# Altium integrated library Integrated_LibraryLukas.IntLib: 18 symbols
Pins are listed as number, name and electrical type; pins without a type are passive.

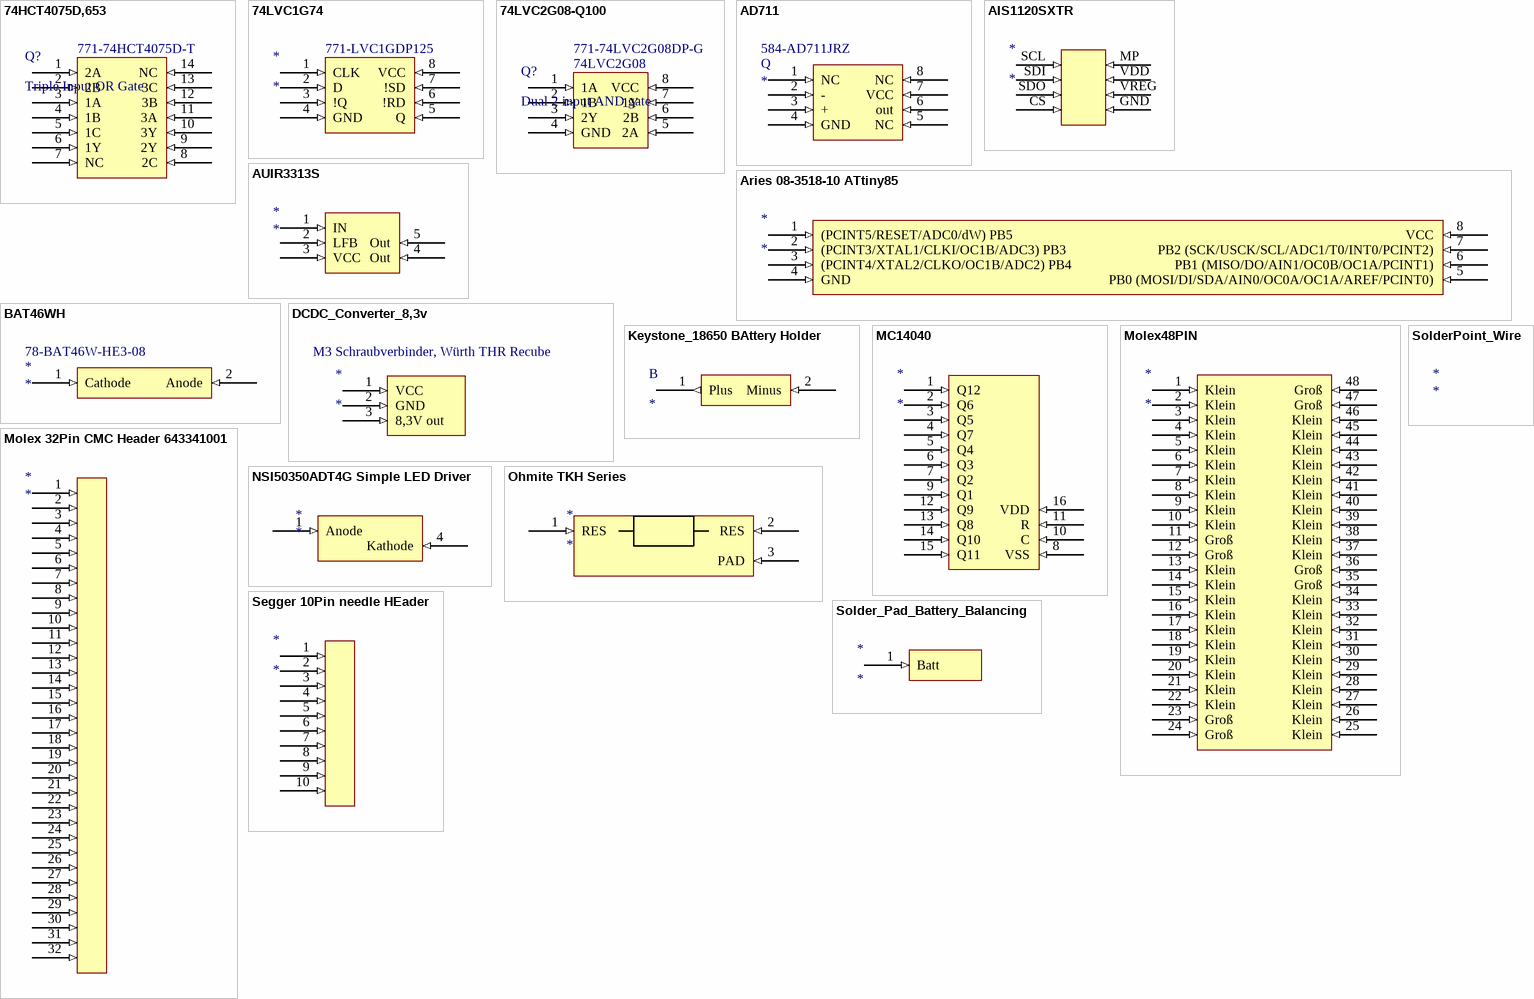
[diagram p0: symbols 74HCT4075D,653 to SolderPoint_Wire]

## 74HCT4075D,653
designator Q?, comment Triple Input OR Gate  Supplier Part Number 1: 771-74HCT4075D-T
Supplier 1: Mouser
footprint SOIC14; SOIC127P600X175-14N (SOIC, 14-Leads, Body 8,65x3,90mm, Pitch 1,27mm, IPC Medium Density)
pins: 1 2A (in), 2 2B (in), 3 1A (in), 4 1B (in), 5 1C (in), 6 1Y (in), 7 NC (in), 8 2C (in), 9 2Y (in), 10 3Y (in), 11 3A (in), 12 3B (in), 13 3C (in), 14 NC (in)

## 74LVC1G74
designator *  Supplier Part Number 1: 771-LVC1GDP125
Supplier 1: Mouser
footprint TSSOP8; TSOP65P400X110-8N (TSOP, 8-Leads, Body 3,00x3,00mm, Pitch 0,65mm, IPC Medium Density)
pins: 1 CLK (in), 2 D (in), 3 !Q (in), 4 GND (in), 5 Q (in), 6 !RD (in), 7 !SD (in), 8 VCC (in)

## 74LVC2G08-Q100
designator Q?, comment Dual 2 input AND gate  Supplier Part Number 1: 771-74LVC2G08DP-G
Supplier 1: Mouser
footprint TSSOP8; TSOP65P400X110-8N (TSOP, 8-Leads, Body 3,00x3,00mm, Pitch 0,65mm, IPC Medium Density)
pins: 1 1A (in), 2 1B (in), 3 2Y (in), 4 GND (in), 5 2A (in), 6 2B (in), 7 1Y (in), 8 VCC (in)
text: 74LVC2G08

## AD711
designator Q  Supplier Part Number 1: 584-AD711JRZ
Supplier 1: Mouser
footprint SOIC8; SOIC127P600X175-8N (SOIC, 8-Leads, Body 4,90x3,90mm, Pitch 1,27mm, IPC Medium Density)
pins: 1 NC (in), 2 - (in), 3 + (in), 4 GND (in), 5 NC (in), 6 out (in), 7 VCC (in), 8 NC (in)

## AIS1120SXTR
designator *
footprint SOIC8; SOIC127P600X175-8N (SOIC, 8-Leads, Body 4,90x3,90mm, Pitch 1,27mm, IPC Medium Density); pin to pad CS>4 GND>5 MP>8 SCL>1 SDI>2 SDO>3 VDD>7 VREG>6
pins: CS (in), GND (in), MP (in), SCL (in), SDI (in), SDO (in), VDD (in), VREG (in)

## Aries 08-3518-10 ATtiny85
designator *
footprint DIP8 0.3 Center
pins: 1 (PCINT5/RESET/ADC0/dW) PB5 (in), 2 (PCINT3/XTAL1/CLKI/OC1B/ADC3) PB3 (in), 3 (PCINT4/XTAL2/CLKO/OC1B/ADC2) PB4 (in), 4 GND (in), 5 PB0 (MOSI/DI/SDA/AIN0/OC0A/OC1A/AREF/PCINT0) (in), 6 PB1 (MISO/DO/AIN1/OC0B/OC1A/PCINT1) (in), 7 PB2 (SCK/USCK/SCL/ADC1/T0/INT0/PCINT2) (in), 8 VCC (in)

## AUIR3313S
designator *
footprint D2PAK5 ;DPAK228P1524X483-5N (D2-PAK, 5-Pads, Body 7,93x8,70mm (max), IPC Medium Density)
pins: 1 IN (in), 2 LFB (in), 3 VCC (in), 4 Out (in), 5 Out (in)

## BAT46WH
designator *  Supplier Part Number 1: 78-BAT46W-HE3-08
Supplier 1: Mouser
footprint DIOM2715X18N (Molded Diode, 2-Leads, Body 2,70x1,55mm, IPC Medium Density)
pins: 1 Cathode (in), 2 Anode (in)

## DCDC_Converter_8,3v
designator *
footprint DCDC_BR_8,3V
pins: 1 VCC (in), 2 GND (in), 3 8,3V out (in)
text: M3 Schraubverbinder, Würth THR Recube

## Keystone_18650 BAttery Holder
designator B
1042
footprint Keystone_18650_Battery_Holder
pins: 1 Plus (out), 2 Minus (in)

## MC14040
designator *
footprint SOIC127P1030X265-16N (SOIC, 16-Leads, Body 10,30x7,50mm, Pitch 1,27mm, IPC Medium Density)
pins: 1 Q12 (in), 2 Q6 (in), 3 Q5 (in), 4 Q7 (in), 5 Q4 (in), 6 Q3 (in), 7 Q2 (in), 8 VSS (in), 9 Q1 (in), 10 C (in), 11 R (in), 12 Q9 (in), 13 Q8 (in), 14 Q10 (in), 15 Q11 (in), 16 VDD (in)

## Molex48PIN
designator *
footprint Molex 48 Pin Header CMC/CMX
pins: 1 Klein (in), 2 Klein (in), 3 Klein (in), 4 Klein (in), 5 Klein (in), 6 Klein (in), 7 Klein (in), 8 Klein (in), 9 Klein (in), 10 Klein (in), 11 Groß (in), 12 Groß (in), 13 Klein (in), 14 Klein (in), 15 Klein (in), 16 Klein (in), 17 Klein (in), 18 Klein (in), 19 Klein (in), 20 Klein (in), 21 Klein (in), 22 Klein (in), 23 Groß (in), 24 Groß (in), 25 Klein (in), 26 Klein (in), 27 Klein (in), 28 Klein (in), 29 Klein (in), 30 Klein (in), 31 Klein (in), 32 Klein (in), 33 Klein (in), 34 Klein (in), 35 Groß (in), 36 Groß (in), 37 Klein (in), 38 Klein (in), 39 Klein (in), 40 Klein (in), 41 Klein (in), 42 Klein (in), 43 Klein (in), 44 Klein (in), 45 Klein (in), 46 Klein (in), 47 Groß (in), 48 Groß (in)

## Molex 32Pin CMC Header 643341001
designator *
footprint Molex32Pin CMC Header 643341001
pins: 1 (in), 2 (in), 3 (in), 4 (in), 5 (in), 6 (in), 7 (in), 8 (in), 9 (in), 10 (in), 11 (in), 12 (in), 13 (in), 14 (in), 15 (in), 16 (in), 17 (in), 18 (in), 19 (in), 20 (in), 21 (in), 22 (in), 23 (in), 24 (in), 25 (in), 26 (in), 27 (in), 28 (in), 29 (in), 30 (in), 31 (in), 32 (in)

## NSI50350ADT4G Simple LED Driver
designator *
footprint DPAK229P990X238-3N (D-PAK, 3-Pads, Body 6,21x6,73mm (max), IPC Medium Density)
pins: 1 Anode (in), 4 Kathode (in)

## Ohmite TKH Series
designator *
footprint DPAK508P970X91-3N (D-PAK, 3-Pads, Body 9,10x7,51mm (max), IPC Medium Density)
pins: 1 RES (in), 2 RES (in), 3 PAD (in)

## Segger 10Pin needle HEader
designator *
footprint JTAG Needle Header
pins: 1 (in), 2 (in), 3 (in), 4 (in), 5 (in), 6 (in), 7 (in), 8 (in), 9 (in), 10 (in)

## Solder_Pad_Battery_Balancing
designator *
footprint Solder_Pad_Battery_Balancing
pins: 1 Batt (in)

## SolderPoint_Wire
designator *